# Altium footprint library 4.01-2.00mm排针-排母.PcbLib: 18 footprints (part 2 of 2)
Each footprint in its own frame and in the unit in brackets; x right, y up, seen from the top. Pads: shape width x height; smd on the part's side, far side on the other; paste and mask are expansions set on the pad; w line width, h text height; cw(c..) or ccw(c..) is an arc to the next point about the centre after c.
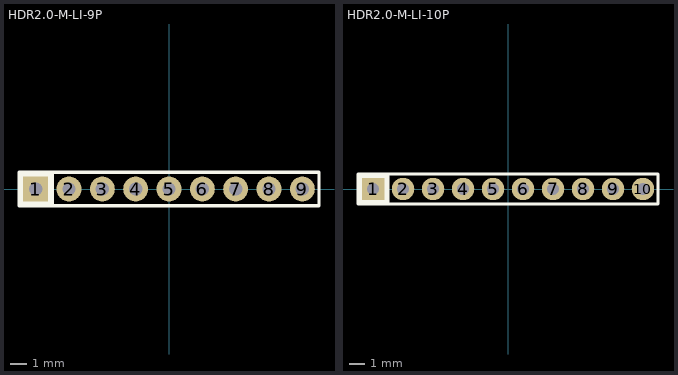
[diagram p1: the footprints below, top view; thin cyan lines are the x and y axes]

## HDR2.0-M-LI-9P [mm] "直插排母，脚距：2.0mm"
pads (9):
  rect 1.5x1.5 hole 0.8: 1(-8,0)
  round 1.5 hole 0.8: 2(-6,0) 3(-4,0) 4(-2,0) 5(0,0) 6(2,0) 7(4,0) 8(6,0) 9(8,0)
Top Overlay:
  rectangle: -9,-1 -7,1
  lines w0.2: -7,-1 -7,1 ; -9,-1 -9,1 9,1 9,-1 -9,-1
3D body: height 5.5, standoff -2.27, extent -9,-1 9,1

## HDR2.0-M-LI-10P [mm] "直插排母，脚距：2.0mm"
pads (10):
  rect 1.5x1.5 hole 0.8: 1(-9,0)
  round 1.5 hole 0.8: 2(-7,0) 3(-5,0) 4(-3,0) 5(-1,0) 6(1,0) 7(3,0) 8(5,0) 9(7,0) 10(9,0)
Top Overlay:
  rectangle: -10,-1 -8,1
  lines w0.2: -8,-1 -8,1 ; -10,-1 -10,1 10,1 10,-1 -10,-1
3D body: height 5.5, standoff -2.27, extent -10,-1 10,1